# Altium schematic symbol library SML-LX2530SRELC-TR.SchLib: 1 symbol
Pins are listed as number, name and electrical type; pins without a type are passive.

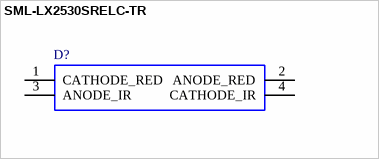
[diagram p0: symbol SML-LX2530SRELC-TR]

## SML-LX2530SRELC-TR
designator D?
Standard LEDs - SMD 3x2.5mm LED Bi-Color Red 660nm/940nm; Manufacturer_Name: Lumex; Geometry.Height: 1.1mm; Mouser Part Number: 696-LX2530SRELC-TR; Mouser Price/Stock: https://www.mouser.co.uk/ProductDetail/Lumex/SML-LX2530SRELC-TR?qs=26yrLECgo49BUfIwHN7xVg%3D%3D; Manufacturer_Part_Number: SML-LX2530SRELC-TR; Datasheet Link: https://www.lumex.com/spec/SML-LX2530SRELC-TR.pdf
footprint SMLLX2530SRELCTR
pins: 1 CATHODE_RED, 2 ANODE_RED, 3 ANODE_IR, 4 CATHODE_IR